# EAGLE library part ESP32-WROOM-32 (library esp32-component-libraries_v194)
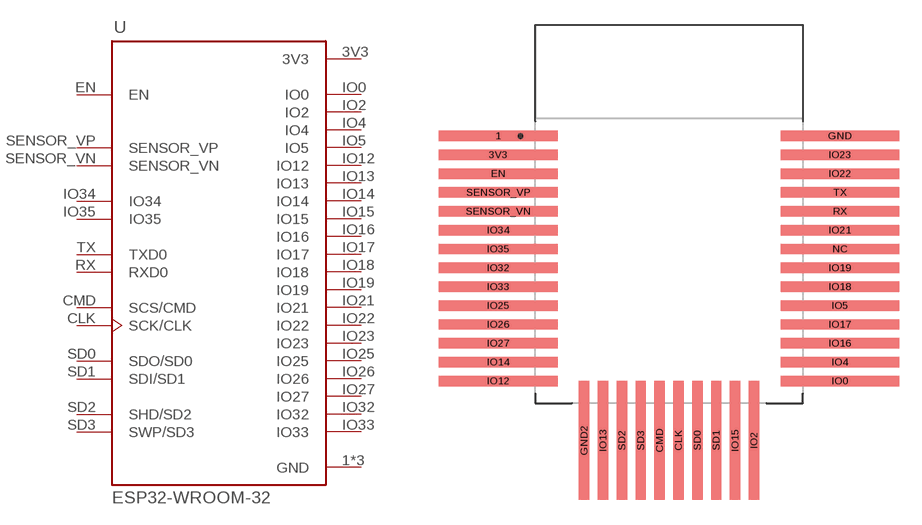
[diagram p3: symbol with the pads of ESP32-WROOM-32; footprint ESP32-WROOM-32]

Designator prefix -

## ESP32-WROOM-32  [ESP32-WROOM-32]
1  GND  pwr
3V3  3V3  pwr
CLK  SCK/CLK
CMD  SCS/CMD
EN  EN  in
GND  GND  pwr
GND2  GND  pwr
IO0  IO0
IO2  IO2
IO4  IO4
IO5  IO5
IO12  IO12
IO13  IO13
IO14  IO14
IO15  IO15
IO16  IO16
IO17  IO17
IO18  IO18
IO19  IO19
IO21  IO21
IO22  IO22
IO23  IO23
IO25  IO25
IO26  IO26
IO27  IO27
IO32  IO32
IO33  IO33
IO34  IO34  in
IO35  IO35  in
RX  RXD0
SD0  SDO/SD0
SD1  SDI/SD1
SD2  SHD/SD2
SD3  SWP/SD3
SENSOR_VN  SENSOR_VN  in
SENSOR_VP  SENSOR_VP  in
TX  TXD0

## Footprint ESP32-WROOM-32 (pad centres in mm)
smd 8 x 0.7: 1 -11.5,5.26; 3V3 -11.5,3.99; EN -11.5,2.72; GND 11.5,5.26; IO0 11.5,-11.25; IO4 11.5,-9.98; IO5 11.5,-6.17; IO12 -11.5,-11.25; IO14 -11.5,-9.98; IO16 11.5,-8.71; IO17 11.5,-7.44; IO18 11.5,-4.9; IO19 11.5,-3.63; IO21 11.5,-1.09; IO22 11.5,2.72; IO23 11.5,3.99; IO25 -11.5,-6.17; IO26 -11.5,-7.44; IO27 -11.5,-8.71; IO32 -11.5,-3.63; IO33 -11.5,-4.9; IO34 -11.5,-1.09; IO35 -11.5,-2.36; NC 11.5,-2.36; RX 11.5,0.18; SENSOR_VN -11.5,0.18; SENSOR_VP -11.5,1.45; TX 11.5,1.45
smd 0.7 x 8: CLK 0.635,-15.25; CMD -0.635,-15.25; GND2 -5.715,-15.25; IO2 5.715,-15.25; IO13 -4.445,-15.25; IO15 4.445,-15.25; SD0 1.905,-15.25; SD1 3.175,-15.25; SD2 -3.175,-15.25; SD3 -1.905,-15.25